# EAGLE library part 10090099-S254VLF (library radu-collected)
FCI 10090099-S254[VLX]LF DB-25 female connector, right angle PCB mount
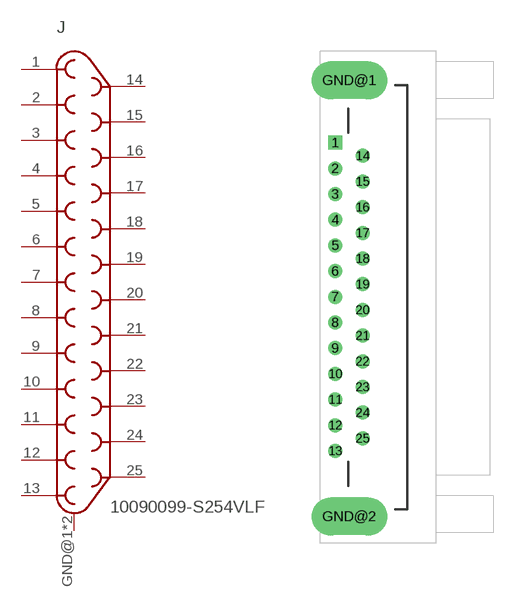
[diagram p4: symbol with the pads of 10090099-S254VLF; footprint 10090099-S254VLF]

Designator prefix J

## 10090099-S254VLF  [10090099-S254VLF]
1  1  pas
2  2  pas
3  3  pas
4  4  pas
5  5  pas
6  6  pas
7  7  pas
8  8  pas
9  9  pas
10  10  pas
11  11  pas
12  12  pas
13  13  pas
14  14  pas
15  15  pas
16  16  pas
17  17  pas
18  18  pas
19  19  pas
20  20  pas
21  21  pas
22  22  pas
23  23  pas
24  24  pas
25  25  pas
GND@1  GND  pwr
GND@2  GND  pwr

## Footprint 10090099-S254VLF (pad centres in mm)
FCI 10090099-S254VLF DB-25 female, right angle connectors with harpoons NOTE: what you see in the board editor is always as viewed from TOP, pin 1 is the square pad on top left
drill 1 square: 1 -1.39,16.67
drill 1: 2 -1.39,13.9; 3 -1.39,11.13; 4 -1.39,8.36; 5 -1.39,5.59; 6 -1.39,2.82; 7 -1.39,0.05; 8 -1.39,-2.72; 9 -1.39,-5.49; 10 -1.39,-8.26; 11 -1.39,-11.03; 12 -1.39,-13.8; 13 -1.39,-16.57; 14 1.545,15.255; 15 1.545,12.485; 16 1.545,9.715; 17 1.545,6.945; 18 1.545,4.175; 19 1.545,1.405; 20 1.545,-1.365; 21 1.545,-4.135; 22 1.545,-6.905; 23 1.545,-9.675; 24 1.545,-12.445; 25 1.545,-15.215
drill 3.1 long: GND@1 0.12,23.41; GND@2 0.12,-23.63